# Altium schematic symbol library TinyArduino.SCHLIB: 10 symbols
Pins are listed as number, name and electrical type; pins without a type are passive.

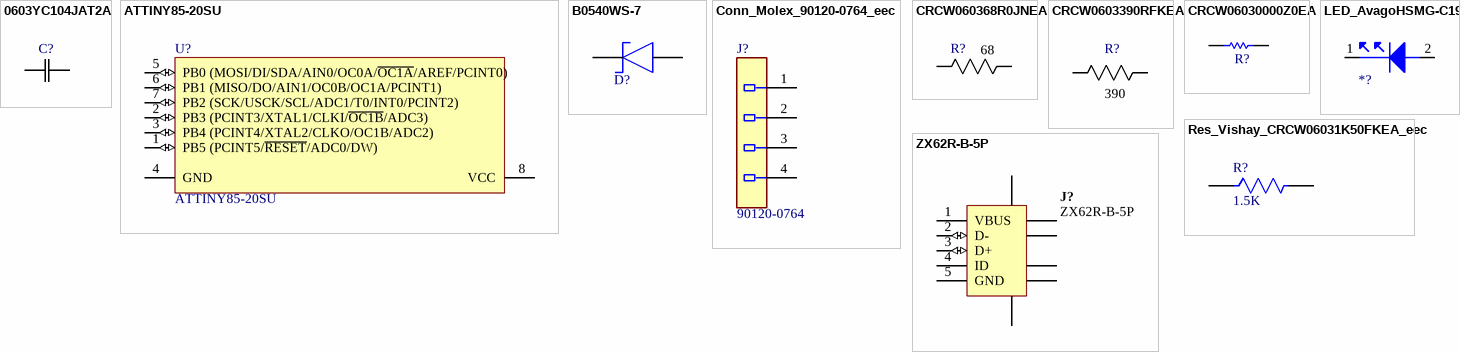
[diagram p0: symbols 0603YC104JAT2A to ZX62R-B-5P]

## 0603YC104JAT2A
designator C?  (value not drawn)
Imported; Vendor: AVX Corporation; Built_By: EMA_UL_Team; Type: DEV; C: Copyright (C) 2015 Accelerated Designs. All rights reserved; Manufacturer_Part_Number: 0603YC104JAT2A; RefDes: RefDes; Value: Value
footprint CAPC1608X90X35NL15T15
pins: 1, 2

## ATTINY85-20SU
designator U?
8-bit AVR Microcontroller, 20MHz, 2.7-5.5V, 8K Flash, 512 Bytes EEPROM, 512 Bytes SRAM, Industrial Grade (-40°C to 85°C), 8-Lead SOIC, Pb-Free; ComponentLink1Description: Manufacturer URL; ComponentLink2Description: ATtiny25/45/85 Datasheet; ComponentLink3Description: ATtiny25/45/85 Summary; ComponentLink3URL: http://www.atmel.com/dyn/resources/prod_documents/2586S.pdf; DatasheetVersion: revN, Apr-2011; ComponentLink1URL: http://www.atmel.com/; RevisionNote: DatasheetVersion updated. URLs added.; PackageVersion: revF, Apr-2008; PackageDescription: 8-Lead, 0.208" Body, Plastic Small Outline Package (EIAJ); ComponentLink2URL: http://www.atmel.com/dyn/resources/prod_documents/doc2586.pdf; PackageReference: 8S2; PartNumber: ATTINY85-20SU
footprint 8S2_L (SOP, 8-Leads, Body 5.3x5.3mm, Pitch 1.27mm, IPC High Density)
footprint 8S2_M (SOP, 8-Leads, Body 5.3x5.3mm, Pitch 1.27mm, IPC Low Density)
footprint 8S2_N (SOP, 8-Leads, Body 5.3x5.3mm, Pitch 1.27mm, IPC Medium Density)
footprint 8S2_L (SOP, 8-Leads, Body 5.3x5.3mm, Pitch 1.27mm, IPC High Density)
pins: 1 PB5 (PCINT5/~{RESET}/ADC0/DW) (io), 2 PB3 (PCINT3/XTAL1/CLKI/~{OC1B}/ADC3) (io), 3 PB4 (PCINT4/XTAL2/CLKO/OC1B/ADC2) (io), 4 GND (power), 5 PB0 (MOSI/DI/SDA/AIN0/OC0A/~{OC1A}/AREF/PCINT0) (io), 6 PB1 (MISO/DO/AIN1/OC0B/OC1A/PCINT1) (io), 7 PB2 (SCK/USCK/SCL/ADC1/T0/INT0/PCINT2) (io), 8 VCC (power)

## B0540WS-7
designator D?, comment Diodes Inc. B0540WS-7  (value not drawn)
DIODE SCHOTTKY 40V 500MA SOD323; Element Configuration: Single; Peak Non-Repetitive Surge Current: 3A; Forward Voltage: 550mV; Peak Reverse Current: 5uA; Polarity: Standard; Capacitance: 125pF; Supplier 1: Digi-Key; Supplier Part Number 1: B0540WSDICT-ND; Manufacturer: Diodes; Manufacturer Part Number: B0540WS-7; Stock 1: 122360; Pricing 1: 1=0.43, 10=0.317, 100=0.1796, 500=0.11896, 1000=0.09121 (USD); Mount: Surface Mount; Number of Pins: 2; Weight: 0.000173oz; Contact Plating: Matte,Tin; Min Operating Temperature: -40°C; Max Operating Temperature: 125°C; Packaging: Tape and Reel; Forward Current: 500mA; Max Repetitive Reverse Voltage (Vrrm): 40V; Package Quantity: 3000; Average Rectified Current: 500mA; Max Forward Surge Current (Ifsm): 3A; Termination: SMD/SMT; Voltage Rating (DC): 40V; Current Rating: 500mA; Output Current: 500mA; Max Reverse Voltage (DC): 40V; Length: 1.8mm; Height: 1mm; Width: 1.4mm; Radiation Hardening: No; REACH SVHC: No SVHC; Lead Free: Lead Free; Category: Productos semiconductores discretos
footprint PCB-6tqbiewd2diqb4h5r69p-1 (DIOD-1N4148WS-SOD-323-2)
pins: 1, 2

## Conn_Molex_90120-0764_eec
designator J?  Part Number: 90120-0764  (hidden comment: Conn_Molex_90120-0764_eec)
CONN 4 Positions Header, Breakaway Connector 0.100" (2.54mm) Through Hole Gold; Manufacturer: Molex; Current - Maximum per Contact: 3.0A; Number of Positions: 4; Contact Length - Post: 2.90mm; Contact Length - Mating: 6.75mm; Voltage - Maximum: 350V; helpURL: https://upverter.com/upn/revision/abd89bfd3815e4cd/; ComponentLink2Description: Datasheet; Temperature: -55°C to +125°C; Package: HDR4; Supplier 2: Mouser; Supplier 1: Digi-Key; ComponentLink1URL: https://upverter.com/upn/revision/abd89bfd3815e4cd/; Supplier Part Number 2: 538-90120-0764; Supplier Part Number 1: WM8086-ND; ComponentLink1Description: Upverter; ComponentLink2URL: http://www.molex.com/pdm_docs/sd/901200764_sd.pdf; RoHS: TRUE; Mouser Part Number: 538-90120-0764; Temperature Range High: +125°C; Digikey Description: CONN 4 Positions Header, Breakaway Connector 0.100" (2.54mm) Through Hole Gold; Digikey Part Number: WM8086-ND; Insulation Height: 2.50mm; Lead Free: yes; Temperature Range Low: -55°C; Pitch: 2.54mm
footprint Molex_90120-0764_0
pins: 1, 2, 3, 4

## CRCW060368R0JNEA
designator R?  value 68  (hidden comment: CRCW060368R0JNEA)
RES SMD 68 OHM 5% 1/10W 0603; Built_By: EMA_UL_Team; C: Copyright (C) 2015 Accelerated Designs. All rights reserved; Vendor: Vishay; Manufacturer_Part_Number: CRCW060368R0JNEA; RefDes: RefDes; Type: DEV
footprint RESC1609X50X30ML10T20
pins: 1, 2

## CRCW0603390RFKEA
designator R?  value 390  (hidden comment: CRCW0603390RFKEA)
Imported; Manufacturer_Part_Number: CRCW0603390RFKEAHP; Vendor: Vishay; Built_By: EMA_UL_Team; C: Copyright (C) 2015 Accelerated Designs. All rights reserved; RefDes: RefDes; Type: DEV
footprint RES_CRCW_0603
footprint RES_CRCW_0603-L
footprint RES_CRCW_0603-M
footprint RESC1609X50X30LL10T20
pins: 1, 2

## CRCW06030000Z0EA
designator R?  (value not drawn)
0Ω 1%; ComponentLink1Description: Datasheet; PartNumber: CRCW06030000Z0EA; ComponentLink1URL: http://www.vishay.com/docs/20035/dcrcwe3.pdf; PackageReference: 0603
footprint RESC1609X50X30LL10T20
pins: 1, 2

## LED_AvagoHSMG-C190
designator *?  (value not drawn)
footprint AVAG-HSMX-C190
pins: 1, 2

## Res_Vishay_CRCW06031K50FKEA_eec
designator R?  Resistance: 1.5K  (hidden comment: Res_Vishay_CRCW06031K50FKEA_eec)
RES 1.5k Ohm ±1% 0.1W, 1/10W Chip Resistor 0603 (1608 Metric) Automotive AEC-Q200 Thick Film; Manufacturer: Vishay; Voltage: 75V; Temperature Coefficient: ±100ppm/°C; Power: 100mW; Part Number: CRCW06031K50FKEA; helpURL: https://upverter.com/upn/revision/92de3c491728bf4e/; ComponentLink2Description: Datasheet; Temperature: -55°C to +155°C; Package: 0603 (1608 metric); Supplier 2: Mouser; Price: 0.0140695309128; Supplier 1: Digi-Key; ComponentLink1URL: https://upverter.com/upn/revision/92de3c491728bf4e/; Supplier Part Number 2: 71-CRCW0603-1.5K-E3; Supplier Part Number 1: 541-1.50KHCT-ND; Value: 1.5K; ComponentLink1Description: Upverter; ComponentLink2URL: http://www.vishay.com/docs/20035/dcrcwe3.pdf; RoHS: TRUE; Mouser Part Number: 71-CRCW0603-1.5K-E3; Ipc Land Pattern Name: RESC16080X45; Tolerance: ±1%; Temperature Range High: +155°C; Digikey Description: RES 1.5k Ohm ±1% 0.1W, 1/10W Chip Resistor 0603 (1608 Metric) Automotive AEC-Q200 Thick Film; Digikey Part Number: 541-1.50KHCT-ND; Lead Free: yes; Temperature Range Low: -55°C
footprint RESC1609X50X30LL10T20
pins: 1, 2

## ZX62R-B-5P
designator J?
Connector; USBMicro-B,Reverse type, SMT; 5 Position; Right Angle; ComponentLink1Description: Manufacturer URL; ComponentLink2Description: Datasheet; DatasheetVersion: 08/2010; ComponentLink1URL: http://www.hirose.com/â€Ž; ComponentLink2URL: http://www.hirose.co.jp/cataloge_hp/e24200011.pdf; Operating Temperature: -30 to 85 degC; PartNumber: ZX62R-B-5P; PackageDescription: 5-Pin USB Micro-B R/A Connector; Mounting Technology: Surface Mount; PackageReference: ZX62R-B-5P
footprint HIRO-ZX62R-B-5P_V (USB Micro-B R/A Connector)
pins: 1 VBUS (power), 2 D- (io), 3 D+ (io), 4 ID, 5 GND (power), 6 SHLD, 7 SHLD, 8 SHLD, 9 SHLD, 10 SHLD, 11 SHLD